# Altium schematic symbol library stm32.SchLib: 14 symbols
Pins are listed as number, name and electrical type; pins without a type are passive.

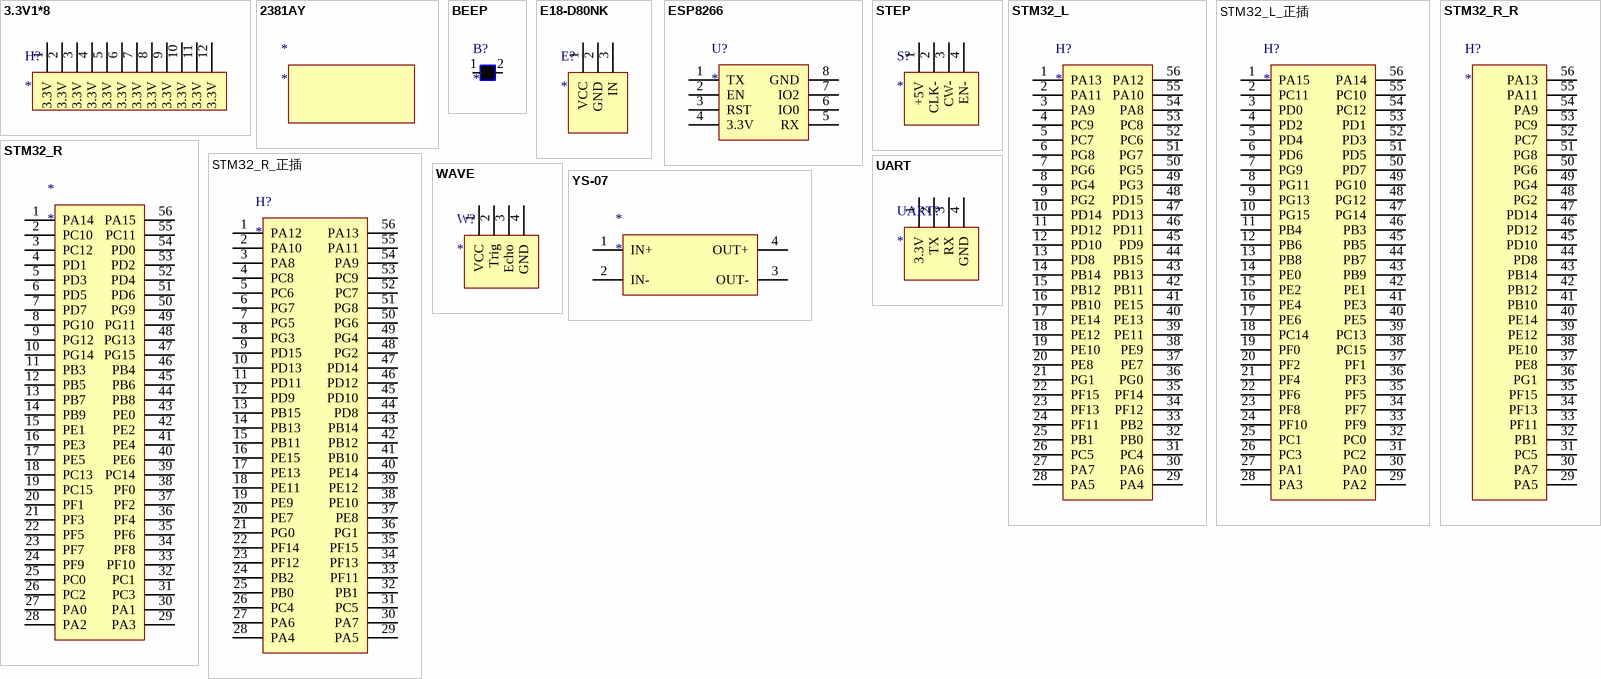
[diagram p0: symbols 3.3V1*8 to YS-07]

## 3.3V1*8
designator H?
pins: 1 3.3V, 2 3.3V, 3 3.3V, 4 3.3V, 5 3.3V, 6 3.3V, 7 3.3V, 8 3.3V, 9 3.3V, 10 3.3V, 11 3.3V, 12 3.3V

## 2381AY
designator *

## BEEP
designator B?
footprint BEEP
pins: 1 IN, 2 GND

## E18-D80NK
designator E?
footprint E18
pins: 1 VCC, 2 GND, 3 IN

## ESP8266
designator U?
footprint ESP8266
pins: 1 TX, 2 EN, 3 RST, 4 3.3V, 5 RX, 6 IO0, 7 IO2, 8 GND

## STEP
designator S?
footprint STEP
pins: 1 +5V, 2 CLK-, 3 CW-, 4 EN-

## STM32_L
designator H?
footprint Header2*28
pins: 1 PA13, 2 PA11, 3 PA9, 4 PC9, 5 PC7, 6 PG8, 7 PG6, 8 PG4, 9 PG2, 10 PD14, 11 PD12, 12 PD10, 13 PD8, 14 PB14, 15 PB12, 16 PB10, 17 PE14, 18 PE12, 19 PE10, 20 PE8, 21 PG1, 22 PF15, 23 PF13, 24 PF11, 25 PB1, 26 PC5, 27 PA7, 28 PA5, 29 PA4, 30 PA6, 31 PC4, 32 PB0, 33 PB2, 34 PF12, 35 PF14, 36 PG0, 37 PE7, 38 PE9, 39 PE11, 40 PE13, 41 PE15, 42 PB11, 43 PB13, 44 PB15, 45 PD9, 46 PD11, 47 PD13, 48 PD15, 49 PG3, 50 PG5, 51 PG7, 52 PC6, 53 PC8, 54 PA8, 55 PA10, 56 PA12

## STM32_L_正插
designator H?
footprint Header2*28
pins: 1 PA15, 2 PC11, 3 PD0, 4 PD2, 5 PD4, 6 PD6, 7 PG9, 8 PG11, 9 PG13, 10 PG15, 11 PB4, 12 PB6, 13 PB8, 14 PE0, 15 PE2, 16 PE4, 17 PE6, 18 PC14, 19 PF0, 20 PF2, 21 PF4, 22 PF6, 23 PF8, 24 PF10, 25 PC1, 26 PC3, 27 PA1, 28 PA3, 29 PA2, 30 PA0, 31 PC2, 32 PC0, 33 PF9, 34 PF7, 35 PF5, 36 PF3, 37 PF1, 38 PC15, 39 PC13, 40 PE5, 41 PE3, 42 PE1, 43 PB9, 44 PB7, 45 PB5, 46 PB3, 47 PG14, 48 PG12, 49 PG10, 50 PD7, 51 PD5, 52 PD3, 53 PD1, 54 PC12, 55 PC10, 56 PA14

## STM32_R
designator *
footprint Header2*28
pins: 1 PA14, 2 PC10, 3 PC12, 4 PD1, 5 PD3, 6 PD5, 7 PD7, 8 PG10, 9 PG12, 10 PG14, 11 PB3, 12 PB5, 13 PB7, 14 PB9, 15 PE1, 16 PE3, 17 PE5, 18 PC13, 19 PC15, 20 PF1, 21 PF3, 22 PF5, 23 PF7, 24 PF9, 25 PC0, 26 PC2, 27 PA0, 28 PA2, 29 PA3, 30 PA1, 31 PC3, 32 PC1, 33 PF10, 34 PF8, 35 PF6, 36 PF4, 37 PF2, 38 PF0, 39 PC14, 40 PE6, 41 PE4, 42 PE2, 43 PE0, 44 PB8, 45 PB6, 46 PB4, 47 PG15, 48 PG13, 49 PG11, 50 PG9, 51 PD6, 52 PD4, 53 PD2, 54 PD0, 55 PC11, 56 PA15

## STM32_R_R
designator H?
footprint HEADER1*28
pins: 29 PA5, 30 PA7, 31 PC5, 32 PB1, 33 PF11, 34 PF13, 35 PF15, 36 PG1, 37 PE8, 38 PE10, 39 PE12, 40 PE14, 41 PB10, 42 PB12, 43 PB14, 44 PD8, 45 PD10, 46 PD12, 47 PD14, 48 PG2, 49 PG4, 50 PG6, 51 PG8, 52 PC7, 53 PC9, 54 PA9, 55 PA11, 56 PA13

## STM32_R_正插
designator H?
footprint Header2*28
pins: 1 PA12, 2 PA10, 3 PA8, 4 PC8, 5 PC6, 6 PG7, 7 PG5, 8 PG3, 9 PD15, 10 PD13, 11 PD11, 12 PD9, 13 PB15, 14 PB13, 15 PB11, 16 PE15, 17 PE13, 18 PE11, 19 PE9, 20 PE7, 21 PG0, 22 PF14, 23 PF12, 24 PB2, 25 PB0, 26 PC4, 27 PA6, 28 PA4, 29 PA5, 30 PA7, 31 PC5, 32 PB1, 33 PF11, 34 PF13, 35 PF15, 36 PG1, 37 PE8, 38 PE10, 39 PE12, 40 PE14, 41 PB10, 42 PB12, 43 PB14, 44 PD8, 45 PD10, 46 PD12, 47 PD14, 48 PG2, 49 PG4, 50 PG6, 51 PG8, 52 PC7, 53 PC9, 54 PA9, 55 PA11, 56 PA13

## UART
designator UART?
footprint UART
pins: 1 3.3V, 2 TX, 3 RX, 4 GND

## WAVE
designator W?
footprint WAVE1*4
pins: 1 VCC, 2 Trig, 3 Echo, 4 GND

## YS-07
designator *
pins: 1 IN+, 2 IN-, 3 OUT-, 4 OUT+